# EAGLE library part LT3081ER (library common)
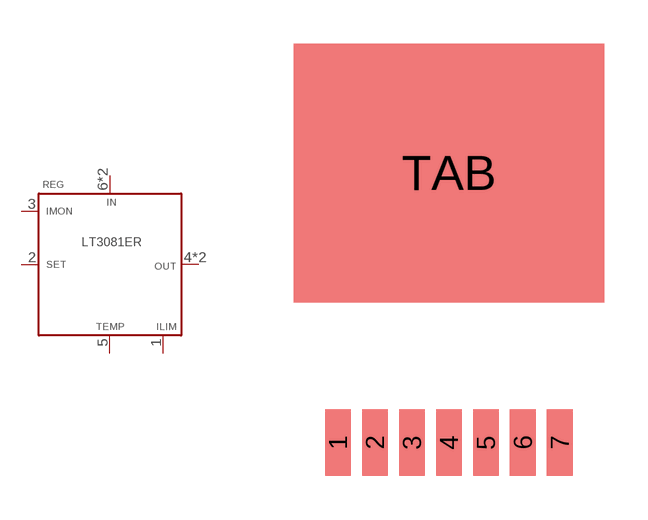
[diagram p36: symbol with the pads of DPAK-7; footprint DPAK-7]

Designator prefix REG

## LT3081ER  [DPAK-7]
1  ILIM
2  SET
3  IMON
4  OUT
5  TEMP
6  IN
7  IN
TAB  OUT

## Footprint DPAK-7 (pad centres in mm)
smd 0.889 x 2.286: 1 -3.81,-6.287; 2 -2.54,-6.287; 3 -1.27,-6.287; 4 0,-6.287; 5 1.27,-6.287; 6 2.54,-6.287; 7 3.81,-6.287
smd 10.668 x 8.89: TAB 0,2.985